# Altium schematic symbol library HEADER_8_1.SchLib: 1 symbol
Pins are listed as number, name and electrical type; pins without a type are passive.

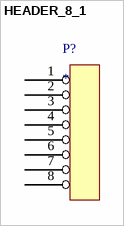
[diagram p0: symbol HEADER_8_1]

## HEADER_8_1
designator P?
8 position 0.100" R/A Header
pins: 1, 2, 3, 4, 5, 6, 7, 8